# Altium footprint library Tese_FootprintLib.PcbLib: 41 footprints (part 3 of 3)
Each footprint in its own frame and in the unit in brackets; x right, y up, seen from the top. Pads: shape width x height; smd on the part's side, far side on the other; paste and mask are expansions set on the pad; w line width, h text height; cw(c..) or ccw(c..) is an arc to the next point about the centre after c.
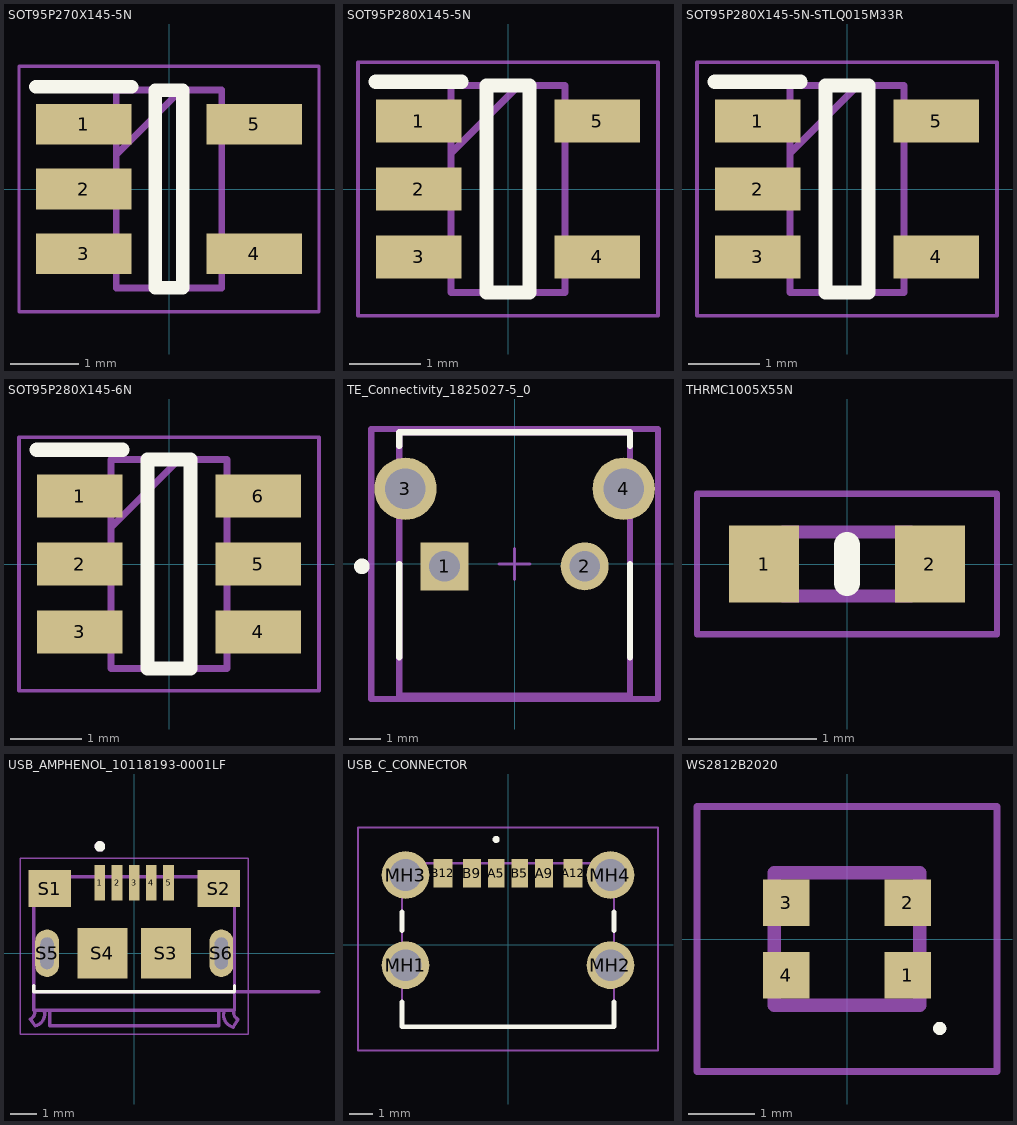
[diagram p2: the footprints below, top view; thin cyan lines are the x and y axes]

## SOT95P270X145-5N [mm] "MCP73831T-2ACI_OT BATT MANAGEMENT"
pads (5):
  rect 1.4x0.6 smd: 1(-1.25,0.95) 2(-1.25,0) 3(-1.25,-0.95) 4(1.25,-0.95) 5(1.25,0.95)
Top Overlay:
  lines w0.2: -1.95,1.5 -0.55,1.5 ; -0.2,-1.45 -0.2,1.45 0.2,1.45 0.2,-1.45 -0.2,-1.45
Mechanical 15:
  lines w0.1: -0.775,0.5 0.175,1.45 ; -0.775,-1.45 -0.775,1.45 0.775,1.45 0.775,-1.45 -0.775,-1.45
Mechanical 20:
  lines w0.05: -2.2,-1.8 -2.2,1.8 2.2,1.8 2.2,-1.8 -2.2,-1.8
3D body "MCP73831T-2ACI_OT.stp": height 1.45, standoff 0, extent -1.35,-1.45 1.35,1.45

## SOT95P280X145-5N [mm] "LP5907MFX-1.8_NOPB"
pads (5):
  rect 1.2x0.6 smd: 1(-1.25,0.95) 2(-1.25,0) 3(-1.25,-0.95) 4(1.25,-0.95) 5(1.25,0.95)
Top Overlay:
  lines w0.2: -1.85,1.5 -0.65,1.5 ; -0.3,-1.45 0.3,-1.45 0.3,1.45 -0.3,1.45 -0.3,-1.45
Mechanical 15:
  lines w0.1: -0.8,0.5 0.15,1.45 ; -0.8,-1.45 0.8,-1.45 0.8,1.45 -0.8,1.45 -0.8,-1.45
Mechanical 20:
  lines w0.05: -2.1,-1.775 2.1,-1.775 2.1,1.775 -2.1,1.775 -2.1,-1.775
3D body "LP5907MFX-1.8_NOPB.stp": height 1.2, standoff 0, extent -1.4,-1.45 1.4,1.45

## SOT95P280X145-5N-STLQ015M33R [mm] "STLQ015M33R"
pads (5):
  rect 1.2x0.6 smd: 1(-1.25,0.95) 2(-1.25,0) 3(-1.25,-0.95) 4(1.25,-0.95) 5(1.25,0.95)
Top Overlay:
  lines w0.2: -1.85,1.5 -0.65,1.5 ; -0.3,-1.45 0.3,-1.45 0.3,1.45 -0.3,1.45 -0.3,-1.45
Mechanical 15:
  lines w0.1: -0.8,0.5 0.15,1.45 ; -0.8,-1.45 0.8,-1.45 0.8,1.45 -0.8,1.45 -0.8,-1.45
Mechanical 20:
  lines w0.05: -2.1,-1.775 2.1,-1.775 2.1,1.775 -2.1,1.775 -2.1,-1.775
3D body "STLQ015M33R.stp": height 1.45, standoff 0, extent -1.4,-1.475 1.4,1.475

## SOT95P280X145-6N [mm] "USBLC6-2SC6Y"
pads (6):
  rect 1.2x0.6 smd: 1(-1.25,0.95) 2(-1.25,0) 3(-1.25,-0.95) 4(1.25,-0.95) 5(1.25,0) 6(1.25,0.95)
Top Overlay:
  lines w0.2: -1.85,1.6 -0.65,1.6 ; -0.3,-1.462 0.3,-1.462 0.3,1.462 -0.3,1.462 -0.3,-1.462
Mechanical 15:
  lines w0.1: -0.812,0.512 0.138,1.462 ; -0.812,-1.462 0.812,-1.462 0.812,1.462 -0.812,1.462 -0.812,-1.462
Mechanical 20:
  lines w0.05: -2.1,-1.775 2.1,-1.775 2.1,1.775 -2.1,1.775 -2.1,-1.775
3D body "USBLC6-2SC6Y.stp": height 1.45, standoff 0, extent -1.4,-1.462 1.4,1.462

## TE_Connectivity_1825027-5_0 [mm]
pads (4):
  rect 1.54x1.54 hole 0.99 paste-2539.97 mask+0: 1(-2.25,-0.075)
  round 1.54 hole 0.99 paste-2539.97 mask+0: 2(2.25,-0.075)
  round 2 hole 1.3 paste-2539.97 mask+0: 3(-3.505,2.415) 4(3.505,2.415)
Top Overlay:
  circle w0.25: c-4.905,-0.075 r0.125
  lines w0.2: -3.705,-2.995 -3.705,0 ; -3.705,3.79 -3.705,4.235 3.705,4.235 3.705,3.79 ; 3.705,-2.995 3.705,0
Mechanical 10:
  lines w0.2: -4.605,-4.335 4.605,-4.335 4.605,4.335 -4.605,4.335 -4.605,-4.335
  text ".Designator" at 0,0 h1
Mechanical 12:
  lines w0.2: -3.705,-4.235 3.705,-4.235 3.705,4.235 -3.705,4.235 -3.705,-4.235
Mechanical 15:
  lines w0.1: -0.5,0 0.5,0 ; 0,-0.5 0,0.5
  lines w0.2: -4.605,-4.335 4.605,-4.335 4.605,4.335 -4.605,4.335 -4.605,-4.335
3D body "Switch_TE_Connectivity_1825027-5_eec.STEP": height 0.25, standoff 0, extent -4.605,-4.335 4.605,4.335

## THRMC1005X55N [mm] "NTCG103JF103FT1"
pads (2):
  rect 0.55x0.6 smd: 1(-0.65,0) 2(0.65,0)
Top Overlay:
  lines w0.2: 0,-0.15 0,0.15
Mechanical 15:
  lines w0.1: -0.5,-0.25 -0.5,0.25 0.5,0.25 0.5,-0.25 -0.5,-0.25
Mechanical 20:
  lines w0.05: -1.175,-0.55 -1.175,0.55 1.175,0.55 1.175,-0.55 -1.175,-0.55
3D body "NTCG103JF103FT1.stp": height 0.55, standoff 0, extent -0.5,-0.25 0.5,0.25

## USB_AMPHENOL_10118193-0001LF [mm]
height 2.55
pads (11):
  rect 0.4x1.35 smd: 1(-1.3,2.675) 2(-0.65,2.675) 3(0,2.675) 4(0.65,2.675) 5(1.3,2.675)
  rect 1.6x1.4 smd: S1(-3.2,2.45) S2(3.2,2.45)
  rect 1.9x1.9 smd: S3(1.2,0) S4(-1.2,0)
  oval 0.9x1.8 hole 0.5 slot 1.2 at 90 deg: S5(-3.3,0) S6(3.3,0)
Top Overlay:
  circle w0.2: c-1.3,4.05 r0.1
  lines w0.127: -3.8,-1.22 -3.8,-1.45 3.8,-1.45 3.8,-1.22
Mechanical 13:
  circle w0.2: c-1.3,4.05 r0.1
  lines w0.127: -3.93,-2.5 -3.75,-2.75 ; -3.93,-2.5 ccw(c-4.065,-2.235) -3.8,-2.1 ; -3.8,-1.45 3.8,-1.45 ; -3.746,-2.749 ccw(c-3.85,-2.3) -3.401,-2.196 ; -3.2,-2.2 -3.2,-2.75 3.2,-2.75 3.2,-2.2 ; 3.401,-2.198 ccw(c3.875,-2.325) 3.748,-2.799 ; 3.75,-2.8 3.93,-2.5 ; 3.8,-2.1 ccw(c4.065,-2.235) 3.93,-2.5 ; 7,-1.45 3.8,-1.45 ; -3.8,-2.1 -3.8,2.9 3.8,2.9 3.8,-1.45 ; -3.8,-2.1 -3.8,-2.15 3.8,-2.15 3.8,-1.45
  text "PCB END" at 4.85,-1.2 h0.41
Mechanical 15:
  lines w0.05: -4.32,-3.066 4.32,-3.066 4.32,3.6 -4.32,3.6 -4.32,-3.066
3D body "step_temp.STEP": height 3.18, standoff -0.43, extent -3.928,-2.74 3.928,2.921

## USB_C_CONNECTOR [mm]
pads (10):
  rect 0.7x1.2 smd: A5(-0.5,3.03) B5(0.5,3.03)
  rect 0.76x1.2 smd: A9(1.52,3.03) B9(-1.52,3.03)
  rect 0.8x1.2 smd: A12(2.75,3.03) B12(-2.75,3.03)
  round 2.01 hole 1.34: MH1(-4.32,-0.85) MH2(4.32,-0.85) MH3(-4.32,2.95) MH4(4.32,2.95)
Top Overlay:
  lines w0.2: -4.47,-2.4 -4.47,-3.45 4.47,-3.45 4.47,-2.4 ; -4.47,0.6 -4.47,1.4 ; 4.47,0.6 4.47,1.4 ; -0.5,4.4 cw(c-0.5,4.45) -0.5,4.5 ; -0.5,4.4 ccw(c-0.5,4.45) -0.5,4.5 ; -0.5,4.4 cw(c-0.5,4.45) -0.5,4.5
Mechanical 15:
  lines w0.1: -4.47,-3.45 -4.47,3.45 4.47,3.45 4.47,-3.45 -4.47,-3.45
Mechanical 20:
  lines w0.1: -6.325,-4.45 -6.325,4.955 6.325,4.955 6.325,-4.45 -6.325,-4.45
3D body "217175-0001.stp": height 2.58, standoff -2.58, extent -4.47,-3.45 4.47,3.45

## WS2812B2020 [mm] "RGB LED"
pads (4):
  rect 0.7x0.7 smd: 1(0.915,-0.55) 2(0.915,0.55) 3(-0.915,0.55) 4(-0.915,-0.55)
Top Overlay:
  lines w0.1: 1.4,-1.4 ccw(c1.4,-1.35) 1.4,-1.3 ccw(c1.4,-1.35) 1.4,-1.4
Mechanical 15:
  lines w0.2: -1.1,-1 1.1,-1 1.1,1 -1.1,1 -1.1,-1
Mechanical 20:
  lines w0.1: -2.265,-2 2.265,-2 2.265,2 -2.265,2 -2.265,-2
3D body "WS2812B-2020.stp": height 0.84, standoff -0.01, extent -1.1,-1 1.1,1